# Altium footprint library SODFL3616X98N.PcbLib: 1 footprints
Each footprint in its own frame and in the unit in brackets; x right, y up, seen from the top. Pads: shape width x height; smd on the part's side, far side on the other; paste and mask are expansions set on the pad; w line width, h text height; cw(c..) or ccw(c..) is an arc to the next point about the centre after c.
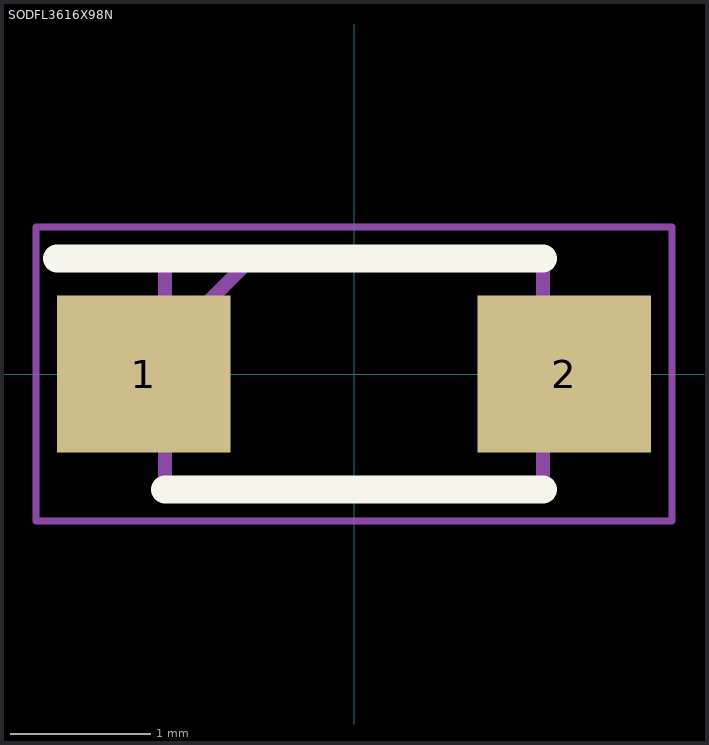
[diagram p0: the footprint, top view; thin cyan lines are the x and y axes]

## SODFL3616X98N [mm]
pads (2):
  rect 1.24x1.12 smd: 1(-1.5,0) 2(1.5,0)
Top Overlay:
  lines w0.2: -2.12,0.825 1.35,0.825 ; -1.35,-0.825 1.35,-0.825
Mechanical 15:
  lines w0.1: -1.35,0.205 -0.73,0.825 ; -1.35,-0.825 1.35,-0.825 1.35,0.825 -1.35,0.825 -1.35,-0.825
Mechanical 20:
  lines w0.05: -2.27,-1.05 2.27,-1.05 2.27,1.05 -2.27,1.05 -2.27,-1.05
3D body "MBR120VLSFT1G.stp": height 0.98, standoff 0, extent -1.8,-0.825 1.8,0.825